# Altium integrated library Renesas Transistor.IntLib: 835 symbols (part 14 of 18)
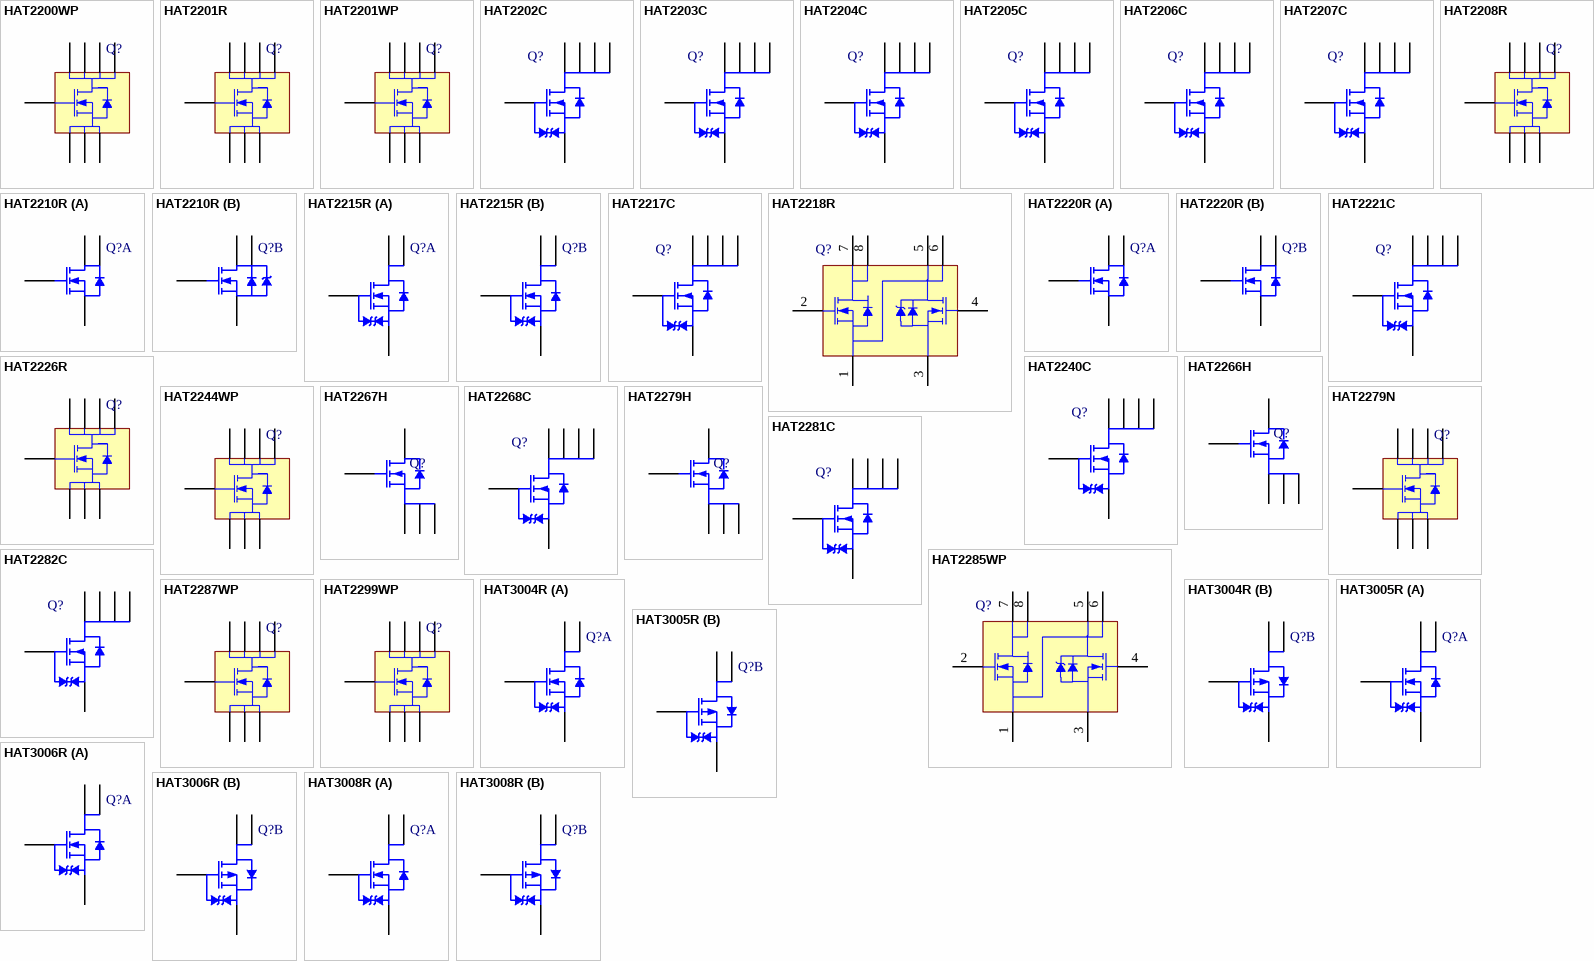
[diagram p35: symbols HAT2200WP to HAT3008R]

## HAT2285WP
designator Q?
Silicon N-Channel Power MOSFET with Schottky Barrier Diode, High Speed Power Switching; Published: 30-Oct-2009; DatasheetVersion: Rev.3.00, Apr-2006; PackageVersion: 2008; PackageReference: PWSN0008DD-A; Publisher: Altium Limited; PackageDescription: 8-Pin Plastic Very-very Thin Small Outline No Lead Package, 5.1 x 6.1 x 0.8mm Body, 1.27mm Pitch (WPAK-D2); ComponentLink1Description: Manufacturer Link; ComponentLink1URL: http://sg.renesas.com/fmwk.jsp?cnt=discrete_category_landing.jsp&fp=/products/discrete/; ComponentLink2Description: Datasheet; ComponentLink2URL: http://documentation.renesas.com/eng/products/transistor/rej03g1371_hat2285wpds.pdf; ComponentLink3Description: Packaging Specification; ComponentLink3URL: http://sg.renesas.com/media/products/common_info/package/pdf/transistor/code/pwsn0008dd_a.pdf
footprint PWSN0008DD-A (SON, 8-Leads, Body 5.1x6.1mm, Pitch 1.27mm, Heatsink)
pins: 1 S1/D2, 2 G1, 3 S2, 4 G2, 5 S1/D2, 6 S1/D2, 7 D1, 8 D1

## HAT2287WP
designator Q?
Silicon N-Channel Power MOSFET, Power Switching; Published: 30-Oct-2009; DatasheetVersion: Rev.1.00, Sep-2006; PackageVersion: Feb-2006; PackageReference: PWSN0008DA-A; Publisher: Altium Limited; PackageDescription: 8-Pin Plastic Very-very Thin Small Outline No Lead Package, 5.1 x 6.1 x 0.8mm Body, 1.27mm Pitch (WPAK); ComponentLink1Description: Manufacturer Link; ComponentLink1URL: http://sg.renesas.com/fmwk.jsp?cnt=discrete_category_landing.jsp&fp=/products/discrete/; ComponentLink2Description: Datasheet; ComponentLink2URL: http://documentation.renesas.com/eng/products/transistor/rej03g1470_hat2287wpds.pdf; ComponentLink3Description: Packaging Specification; ComponentLink3URL: http://sg.renesas.com/media/products/common_info/package/pdf/transistor/code/pwsn0008da_a.pdf
footprint PWSN0008DA-A (SON, 8-Leads, Body 5.1x6.1mm, Pitch 1.27mm, Heatsink)
pins: 1 S, 2 S, 3 S, 4 G, 5 D, 6 D, 7 D, 8 D

## HAT2299WP
designator Q?
Silicon N-Channel MOSFET, Power Switching; Published: 30-Oct-2009; DatasheetVersion: Rev.1.00, Mar-2007; PackageVersion: Feb-2006; PackageReference: PWSN0008DA-A; Publisher: Altium Limited; PackageDescription: 8-Pin Plastic Very-very Thin Small Outline No Lead Package, 5.1 x 6.1 x 0.8mm Body, 1.27mm Pitch (WPAK); ComponentLink1Description: Manufacturer Link; ComponentLink1URL: http://sg.renesas.com/fmwk.jsp?cnt=discrete_category_landing.jsp&fp=/products/discrete/; ComponentLink2Description: Datasheet; ComponentLink2URL: http://documentation.renesas.com/eng/products/transistor/rej03g1528_hat2299wpds.pdf; ComponentLink3Description: Packaging Specification; ComponentLink3URL: http://sg.renesas.com/media/products/common_info/package/pdf/transistor/code/pwsn0008da_a.pdf
footprint PWSN0008DA-A (SON, 8-Leads, Body 5.1x6.1mm, Pitch 1.27mm, Heatsink)
pins: 1 S, 2 S, 3 S, 4 G, 5 D, 6 D, 7 D, 8 D

## HAT3004R
designator Q?
Silicon N-Channel / P-Channel Power MOSFET, High Speed Power Switching; Published: 30-Oct-2009; DatasheetVersion: Rev.11.00, Sep-2005; PackageVersion: Sep-2005; PackageReference: PRSP0008DD-A; Publisher: Altium Limited; PackageDescription: 8-Pin Plastic Small Outline Integrated Circuit 1.27 mm Pitch (SOP-8); Code_IPC: SOIC127P600-8; ComponentLink1Description: Manufacturer Link; ComponentLink1URL: http://sg.renesas.com/fmwk.jsp?cnt=discrete_category_landing.jsp&fp=/products/discrete/; ComponentLink2Description: Datasheet; ComponentLink2URL: http://documentation.renesas.com/eng/products/transistor/rej03g1196_hat3004rds.pdf; ComponentLink3Description: Packaging Specification; ComponentLink3URL: http://sg.renesas.com/media/products/common_info/package/pdf/transistor/code/prsp0008dd_a.pdf
footprint PRSP0008DD-A_N (SOIC, 8-Leads, Body 4.9x3.95mm, Pitch 1.27mm, IPC Medium Density)
footprint PRSP0008DD-A_L (SOIC, 8-Leads, Body 4.9x3.95mm, Pitch 1.27mm, IPC High Density)
footprint PRSP0008DD-A_M (SOIC, 8-Leads, Body 4.9x3.95mm, Pitch 1.27mm, IPC Low Density)
part A pins: 1 S1, 2 G1, 7 D1, 8 D1
part B pins: 3 S2, 4 G2, 5 D2, 6 D2

## HAT3005R
designator Q?
Silicon N/P-Channel Power MOSFET, High Speed Power Switching; Published: 30-Oct-2009; DatasheetVersion: Rev.3.00, Jun-2005; PackageVersion: Sep-2005; PackageReference: PRSP0008DD-A; Publisher: Altium Limited; PackageDescription: 8-Pin Plastic Small Outline Integrated Circuit 1.27 mm Pitch (SOP-8); Code_IPC: SOIC127P600-8; ComponentLink1Description: Manufacturer Link; ComponentLink1URL: http://sg.renesas.com/fmwk.jsp?cnt=discrete_category_landing.jsp&fp=/products/discrete/; ComponentLink2Description: Datasheet; ComponentLink2URL: http://documentation.renesas.com/eng/products/transistor/rej03g0366_hat3005r.pdf; ComponentLink3Description: Packaging Specification; ComponentLink3URL: http://sg.renesas.com/media/products/common_info/package/pdf/transistor/code/prsp0008dd_a.pdf
footprint PRSP0008DD-A_N (SOIC, 8-Leads, Body 4.9x3.95mm, Pitch 1.27mm, IPC Medium Density)
footprint PRSP0008DD-A_L (SOIC, 8-Leads, Body 4.9x3.95mm, Pitch 1.27mm, IPC High Density)
footprint PRSP0008DD-A_M (SOIC, 8-Leads, Body 4.9x3.95mm, Pitch 1.27mm, IPC Low Density)
part A pins: 1 S1, 2 G1, 7 D1, 8 D1
part B pins: 3 S2, 4 G2, 5 D2, 6 D2

## HAT3006R
designator Q?
Silicon N-Channel / P-Channel Power MOSFET, High Speed Power Switching; Published: 30-Oct-2009; DatasheetVersion: Rev.8.00, Sep-2005; PackageVersion: Sep-2005; PackageReference: PRSP0008DD-A; Publisher: Altium Limited; PackageDescription: 8-Pin Plastic Small Outline Integrated Circuit 1.27 mm Pitch (SOP-8); Code_IPC: SOIC127P600-8; ComponentLink1Description: Manufacturer Link; ComponentLink1URL: http://sg.renesas.com/fmwk.jsp?cnt=discrete_category_landing.jsp&fp=/products/discrete/; ComponentLink2Description: Datasheet; ComponentLink2URL: http://documentation.renesas.com/eng/products/transistor/rej03g1197_hat3006rds.pdf; ComponentLink3Description: Packaging Specification; ComponentLink3URL: http://sg.renesas.com/media/products/common_info/package/pdf/transistor/code/prsp0008dd_a.pdf
footprint PRSP0008DD-A_N (SOIC, 8-Leads, Body 4.9x3.95mm, Pitch 1.27mm, IPC Medium Density)
footprint PRSP0008DD-A_L (SOIC, 8-Leads, Body 4.9x3.95mm, Pitch 1.27mm, IPC High Density)
footprint PRSP0008DD-A_M (SOIC, 8-Leads, Body 4.9x3.95mm, Pitch 1.27mm, IPC Low Density)
part A pins: 1 S1, 2 G1, 7 D1, 8 D1
part B pins: 3 S2, 4 G2, 5 D2, 6 D2

## HAT3008R
designator Q?
Silicon N-Channel / P-Channel Power MOSFET, High Speed Power Switching; Published: 30-Oct-2009; DatasheetVersion: Rev.4.00, Sep-2005; PackageVersion: Sep-2005; PackageReference: PRSP0008DD-A; Publisher: Altium Limited; PackageDescription: 8-Pin Plastic Small Outline Integrated Circuit 1.27 mm Pitch (SOP-8); Code_IPC: SOIC127P600-8; ComponentLink1Description: Manufacturer Link; ComponentLink1URL: http://sg.renesas.com/fmwk.jsp?cnt=discrete_category_landing.jsp&fp=/products/discrete/; ComponentLink2Description: Datasheet; ComponentLink2URL: http://documentation.renesas.com/eng/products/transistor/rej03g1198_hat3008rrjds.pdf; ComponentLink3Description: Packaging Specification; ComponentLink3URL: http://sg.renesas.com/media/products/common_info/package/pdf/transistor/code/prsp0008dd_a.pdf
footprint PRSP0008DD-A_N (SOIC, 8-Leads, Body 4.9x3.95mm, Pitch 1.27mm, IPC Medium Density)
footprint PRSP0008DD-A_L (SOIC, 8-Leads, Body 4.9x3.95mm, Pitch 1.27mm, IPC High Density)
footprint PRSP0008DD-A_M (SOIC, 8-Leads, Body 4.9x3.95mm, Pitch 1.27mm, IPC Low Density)
part A pins: 1 S1, 2 G1, 7 D1, 8 D1
part B pins: 3 S2, 4 G2, 5 D2, 6 D2

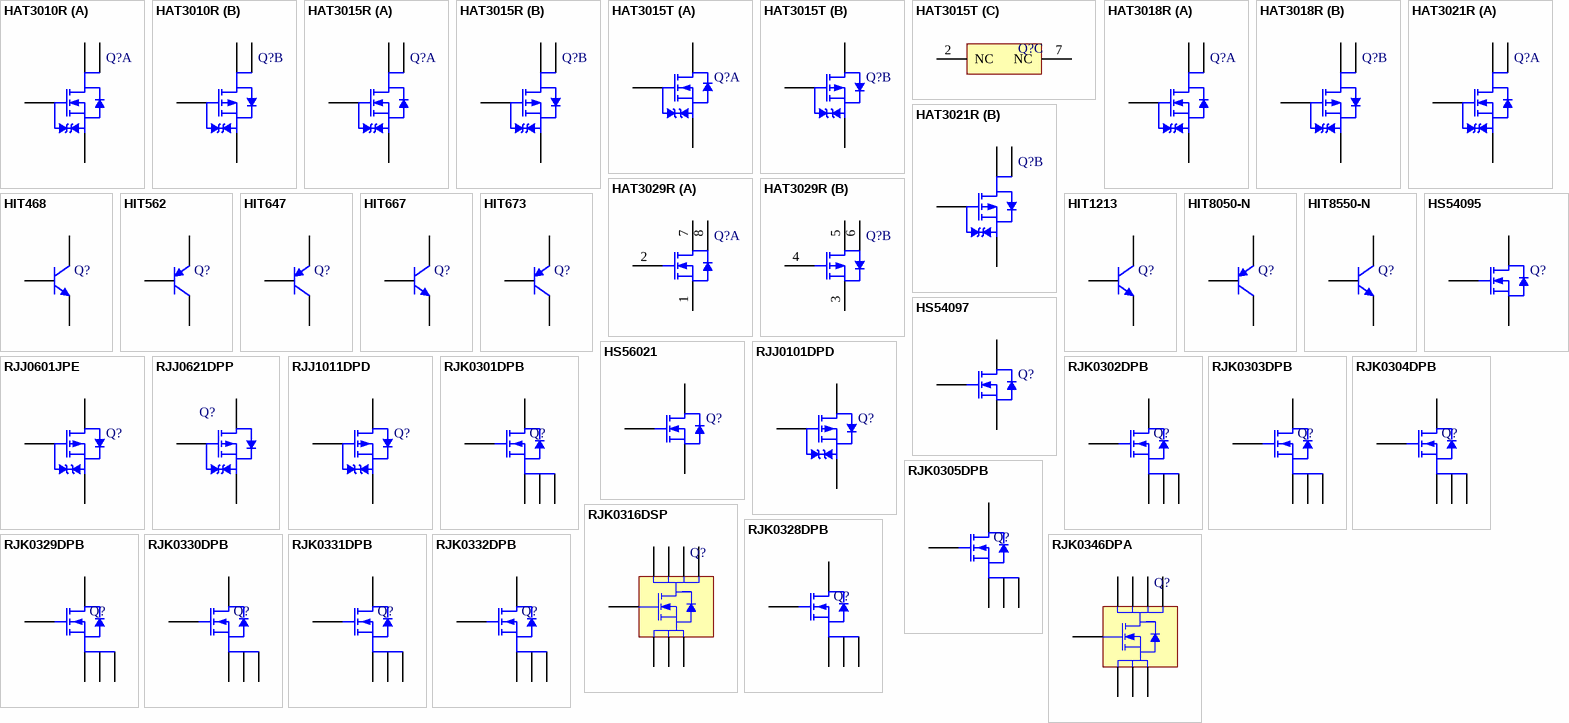
[diagram p17: symbols HAT3010R to RJK0346DPA]

## HAT3010R
designator Q?
Silicon N-Channel / P-Channel Power MOSFET, High Speed Power Switching; Published: 30-Oct-2009; DatasheetVersion: Rev.10.00, Sep-2005; PackageVersion: Sep-2005; PackageReference: PRSP0008DD-A; Publisher: Altium Limited; PackageDescription: 8-Pin Plastic Small Outline Integrated Circuit 1.27 mm Pitch (SOP-8); Code_IPC: SOIC127P600-8; ComponentLink1Description: Manufacturer Link; ComponentLink1URL: http://sg.renesas.com/fmwk.jsp?cnt=discrete_category_landing.jsp&fp=/products/discrete/; ComponentLink2Description: Datasheet; ComponentLink2URL: http://documentation.renesas.com/eng/products/transistor/rej03g1199_hat3010rds.pdf; ComponentLink3Description: Packaging Specification; ComponentLink3URL: http://sg.renesas.com/media/products/common_info/package/pdf/transistor/code/prsp0008dd_a.pdf
footprint PRSP0008DD-A_N (SOIC, 8-Leads, Body 4.9x3.95mm, Pitch 1.27mm, IPC Medium Density)
footprint PRSP0008DD-A_L (SOIC, 8-Leads, Body 4.9x3.95mm, Pitch 1.27mm, IPC High Density)
footprint PRSP0008DD-A_M (SOIC, 8-Leads, Body 4.9x3.95mm, Pitch 1.27mm, IPC Low Density)
part A pins: 1 S1, 2 G1, 7 D1, 8 D1
part B pins: 3 S2, 4 G2, 5 D2, 6 D2

## HAT3015R
designator Q?
Silicon N/P-Channel Power MOSFET, High Speed Power Switching; Published: 30-Oct-2009; DatasheetVersion: Rev.4.00, Apr-2006; PackageVersion: Sep-2005; PackageReference: PRSP0008DD-A; Publisher: Altium Limited; PackageDescription: 8-Pin Plastic Small Outline Integrated Circuit 1.27 mm Pitch (SOP-8); Code_IPC: SOIC127P600-8; ComponentLink1Description: Manufacturer Link; ComponentLink1URL: http://sg.renesas.com/fmwk.jsp?cnt=discrete_category_landing.jsp&fp=/products/discrete/; ComponentLink2Description: Datasheet; ComponentLink2URL: http://documentation.renesas.com/eng/products/transistor/rej03g1368_hat3015rds.pdf; ComponentLink3Description: Packaging Specification; ComponentLink3URL: http://sg.renesas.com/media/products/common_info/package/pdf/transistor/code/prsp0008dd_a.pdf
footprint PRSP0008DD-A_N (SOIC, 8-Leads, Body 4.9x3.95mm, Pitch 1.27mm, IPC Medium Density)
footprint PRSP0008DD-A_L (SOIC, 8-Leads, Body 4.9x3.95mm, Pitch 1.27mm, IPC High Density)
footprint PRSP0008DD-A_M (SOIC, 8-Leads, Body 4.9x3.95mm, Pitch 1.27mm, IPC Low Density)
part A pins: 1 S1, 2 G1, 7 D1, 8 D1
part B pins: 3 S2, 4 G2, 5 D2, 6 D2

## HAT3015T
designator Q?
Silicon N/P-Channel Power MOSFET, High Speed Power Switching; Published: 30-Oct-2009; DatasheetVersion: Rev.2.00, Sep-2004; PackageVersion: Sep-2007; PackageReference: PTSP0008JB-A; Publisher: Altium Limited; PackageDescription: 8-Pin Plastic Thin Small Outline Package 0.65 mm Pitch (TSSOP-8); Code_JEITA: P-TSSOP8-4.4×3-0.65; ComponentLink1Description: Manufacturer Link; ComponentLink1URL: http://sg.renesas.com/fmwk.jsp?cnt=discrete_category_landing.jsp&fp=/products/discrete/; ComponentLink2Description: Datasheet; ComponentLink2URL: http://documentation.renesas.com/eng/products/transistor/rej03g0405_hat3015t.pdf; ComponentLink3Description: Packaging Specification; ComponentLink3URL: http://sg.renesas.com/media/products/common_info/package/pdf/transistor/code/ptsp0008jb_a.pdf
footprint PTSP0008JB-A_N (TSOP, 8-Leads, Body 3x4.4mm, Pitch 0.65mm, IPC Medium Density)
footprint PTSP0008JB-A_L (TSOP, 8-Leads, Body 3x4.4mm, Pitch 0.65mm, IPC High Density)
footprint PTSP0008JB-A_M (TSOP, 8-Leads, Body 3x4.4mm, Pitch 0.65mm, IPC Low Density)
part A pins: 1 D, 3 S, 4 G
part B pins: 5 G, 6 S, 8 D
part C pins: 2 NC, 7 NC

## HAT3018R
designator Q?
Silicon N/P-Channel Power MOSFET, High Speed Power Switching; Published: 30-Oct-2009; DatasheetVersion: Rev.2.00, Nov-2008; PackageVersion: Sep-2005; PackageReference: PRSP0008DD-A; Publisher: Altium Limited; PackageDescription: 8-Pin Plastic Small Outline Integrated Circuit 1.27 mm Pitch (SOP-8); Code_IPC: SOIC127P600-8; ComponentLink1Description: Manufacturer Link; ComponentLink1URL: http://sg.renesas.com/fmwk.jsp?cnt=discrete_category_landing.jsp&fp=/products/discrete/; ComponentLink2Description: Datasheet; ComponentLink2URL: http://documentation.renesas.com/eng/products/transistor/rej03g0127_hat3018r.pdf; ComponentLink3Description: Packaging Specification; ComponentLink3URL: http://sg.renesas.com/media/products/common_info/package/pdf/transistor/code/prsp0008dd_a.pdf
footprint PRSP0008DD-A_N (SOIC, 8-Leads, Body 4.9x3.95mm, Pitch 1.27mm, IPC Medium Density)
footprint PRSP0008DD-A_L (SOIC, 8-Leads, Body 4.9x3.95mm, Pitch 1.27mm, IPC High Density)
footprint PRSP0008DD-A_M (SOIC, 8-Leads, Body 4.9x3.95mm, Pitch 1.27mm, IPC Low Density)
part A pins: 1 S1, 2 G1, 7 D1, 8 D1
part B pins: 3 S2, 4 G2, 5 D2, 6 D2

## HAT3021R
designator Q?
Silicon N/P-Channel Power MOSFET, Power Switching; Published: 30-Oct-2009; DatasheetVersion: Rev.2.00, Oct-2004; PackageVersion: Sep-2005; PackageReference: PRSP0008DD-A; Publisher: Altium Limited; PackageDescription: 8-Pin Plastic Small Outline Integrated Circuit 1.27 mm Pitch (SOP-8); Code_IPC: SOIC127P600-8; ComponentLink1Description: Manufacturer Link; ComponentLink1URL: http://sg.renesas.com/fmwk.jsp?cnt=discrete_category_landing.jsp&fp=/products/discrete/; ComponentLink2Description: Datasheet; ComponentLink2URL: http://documentation.renesas.com/eng/products/transistor/rej03g0415_hat3021r.pdf; ComponentLink3Description: Packaging Specification; ComponentLink3URL: http://sg.renesas.com/media/products/common_info/package/pdf/transistor/code/prsp0008dd_a.pdf
footprint PRSP0008DD-A_N (SOIC, 8-Leads, Body 4.9x3.95mm, Pitch 1.27mm, IPC Medium Density)
footprint PRSP0008DD-A_L (SOIC, 8-Leads, Body 4.9x3.95mm, Pitch 1.27mm, IPC High Density)
footprint PRSP0008DD-A_M (SOIC, 8-Leads, Body 4.9x3.95mm, Pitch 1.27mm, IPC Low Density)
part A pins: 1 S1, 2 G1, 7 D1, 8 D1
part B pins: 3 S2, 4 G2, 5 D2, 6 D2

## HAT3029R
designator Q?
Silicon N/P-Channel Power MOSFET, Power Switching; Published: 30-Oct-2009; DatasheetVersion: Rev.6.00, Oct-2007; PackageVersion: Sep-2005; PackageReference: PRSP0008DD-D; Publisher: Altium Limited; PackageDescription: 8-Pin Plastic Small Outline Integrated Circuit 1.27 mm Pitch (SOP-8); Code_IPC: SOIC127P600-8; ComponentLink1Description: Manufacturer Link; ComponentLink1URL: http://sg.renesas.com/fmwk.jsp?cnt=discrete_category_landing.jsp&fp=/products/discrete/; ComponentLink2Description: Datasheet; ComponentLink2URL: http://documentation.renesas.com/eng/products/transistor/rej03g1597_hat3029rds.pdf; ComponentLink3Description: Packaging Specification; ComponentLink3URL: http://sg.renesas.com/media/products/common_info/package/pdf/transistor/code/prsp0008dd_d.pdf
footprint PRSP0008DD-D_N (SOIC, 8-Leads, Body 4.9x3.95mm, Pitch 1.27mm, IPC Medium Density)
footprint PRSP0008DD-D_L (SOIC, 8-Leads, Body 4.9x3.95mm, Pitch 1.27mm, IPC High Density)
footprint PRSP0008DD-D_M (SOIC, 8-Leads, Body 4.9x3.95mm, Pitch 1.27mm, IPC Low Density)
part A pins: 1 S1, 2 G1, 7 D1, 8 D1
part B pins: 3 S2, 4 G2, 5 D2, 6 D2

## HIT468
designator Q?
Silicon NPN Epitaxial; Published: 30-Oct-2009; DatasheetVersion: Rev.3.00, Jun-2009; PackageVersion: Jan-2005; PackageReference: PRSS0003DC-A; Publisher: Altium Limited; PackageDescription: TO, Flat Index; 3 In-Line, Axial Leads; Body Dia. 4.8mm; Leads 0.55 x 0.5 mm (max); Code_JEITA: SC-51; ComponentLink1Description: Manufacturer Link; ComponentLink1URL: http://sg.renesas.com/fmwk.jsp?cnt=discrete_category_landing.jsp&fp=/products/discrete/; ComponentLink2Description: Datasheet; ComponentLink2URL: http://documentation.renesas.com/eng/products/transistor/rej03g1502_hit468ds.pdf; ComponentLink3Description: Packaging Specification; ComponentLink3URL: http://sg.renesas.com/media/products/common_info/package/pdf/transistor/code/prss0003dc_a.pdf
footprint PRSS0003DC-A (TO, Flat Index; 3 In-Line, Axial Leads; Body Dia. 4.8mm; Leads 0.55 x 0.5 mm (max))
pins: 1 E, 2 C, 3 B

## HIT562
designator Q?
Silicon PNP Epitaxial; Published: 30-Oct-2009; DatasheetVersion: Rev.3.00, Jun-2009; PackageVersion: Jan-2005; PackageReference: PRSS0003DC-A; Publisher: Altium Limited; PackageDescription: TO, Flat Index; 3 In-Line, Axial Leads; Body Dia. 4.8mm; Leads 0.55 x 0.5 mm (max); Code_JEITA: SC-51; ComponentLink1Description: Manufacturer Link; ComponentLink1URL: http://sg.renesas.com/fmwk.jsp?cnt=discrete_category_landing.jsp&fp=/products/discrete/; ComponentLink2Description: Datasheet; ComponentLink2URL: http://documentation.renesas.com/eng/products/transistor/rej03g1503_hit562ds.pdf; ComponentLink3Description: Packaging Specification; ComponentLink3URL: http://sg.renesas.com/media/products/common_info/package/pdf/transistor/code/prss0003dc_a.pdf
footprint PRSS0003DC-A (TO, Flat Index; 3 In-Line, Axial Leads; Body Dia. 4.8mm; Leads 0.55 x 0.5 mm (max))
pins: 1 E, 2 C, 3 B

## HIT647
designator Q?
Silicon PNP Epitaxial; Published: 30-Oct-2009; DatasheetVersion: Rev.3.00, Jun-2009; PackageVersion: Jan-2005; PackageReference: PRSS0003DC-A; Publisher: Altium Limited; PackageDescription: TO, Flat Index; 3 In-Line, Axial Leads; Body Dia. 4.8mm; Leads 0.55 x 0.5 mm (max); Code_JEITA: SC-51; ComponentLink1Description: Manufacturer Link; ComponentLink1URL: http://sg.renesas.com/fmwk.jsp?cnt=discrete_category_landing.jsp&fp=/products/discrete/; ComponentLink2Description: Datasheet; ComponentLink2URL: http://documentation.renesas.com/eng/products/transistor/rej03g1504_hit647ds.pdf; ComponentLink3Description: Packaging Specification; ComponentLink3URL: http://sg.renesas.com/media/products/common_info/package/pdf/transistor/code/prss0003dc_a.pdf
footprint PRSS0003DC-A (TO, Flat Index; 3 In-Line, Axial Leads; Body Dia. 4.8mm; Leads 0.55 x 0.5 mm (max))
pins: 1 E, 2 C, 3 B

## HIT667
designator Q?
Silicon NPN Epitaxial; Published: 30-Oct-2009; DatasheetVersion: Rev.3.00, Jun-2009; PackageVersion: Jan-2005; PackageReference: PRSS0003DC-A; Publisher: Altium Limited; PackageDescription: TO, Flat Index; 3 In-Line, Axial Leads; Body Dia. 4.8mm; Leads 0.55 x 0.5 mm (max); Code_JEITA: SC-51; ComponentLink1Description: Manufacturer Link; ComponentLink1URL: http://sg.renesas.com/fmwk.jsp?cnt=discrete_category_landing.jsp&fp=/products/discrete/; ComponentLink2Description: Datasheet; ComponentLink2URL: http://documentation.renesas.com/eng/products/transistor/rej03g1505_hit667ds.pdf; ComponentLink3Description: Packaging Specification; ComponentLink3URL: http://sg.renesas.com/media/products/common_info/package/pdf/transistor/code/prss0003dc_a.pdf
footprint PRSS0003DC-A (TO, Flat Index; 3 In-Line, Axial Leads; Body Dia. 4.8mm; Leads 0.55 x 0.5 mm (max))
pins: 1 E, 2 C, 3 B

## HIT673
designator Q?
Silicon PNP Epitaxial; Published: 30-Oct-2009; DatasheetVersion: Rev.1.00, Nov-2007; PackageVersion: Jan-2005; PackageReference: PRSS0003DA-A; Publisher: Altium Limited; PackageDescription: TO, Flat Index; 3 In-Line, Axial Leads; Body Dia. 4.8mm; Leads 0.55 x 0.5 mm (max); Code_JEITA: SC-43A; ComponentLink1Description: Manufacturer Link; ComponentLink1URL: http://sg.renesas.com/fmwk.jsp?cnt=discrete_category_landing.jsp&fp=/products/discrete/; ComponentLink2Description: Datasheet; ComponentLink2URL: http://documentation.renesas.com/eng/products/transistor/rej03g1608_hit673ds.pdf; ComponentLink3Description: Packaging Specification; ComponentLink3URL: http://sg.renesas.com/media/products/common_info/package/pdf/transistor/code/prss0003da_a.pdf
footprint PRSS0003DA-A (TO, Flat Index; 3 In-Line, Axial Leads; Body Dia. 4.8mm; Leads 0.55 x 0.5 mm (max))
pins: 1 E, 2 C, 3 B

## HIT1213
designator Q?
Silicon NPN Epitaxial; Published: 30-Oct-2009; DatasheetVersion: Rev.1.00, Nov-2007; PackageVersion: Jan-2005; PackageReference: PRSS0003DA-A; Publisher: Altium Limited; PackageDescription: TO, Flat Index; 3 In-Line, Axial Leads; Body Dia. 4.8mm; Leads 0.55 x 0.5 mm (max); Code_JEITA: SC-43A; ComponentLink1Description: Manufacturer Link; ComponentLink1URL: http://sg.renesas.com/fmwk.jsp?cnt=discrete_category_landing.jsp&fp=/products/discrete/; ComponentLink2Description: Datasheet; ComponentLink2URL: http://documentation.renesas.com/eng/products/transistor/rej03g1609_hit1213ds.pdf; ComponentLink3Description: Packaging Specification; ComponentLink3URL: http://sg.renesas.com/media/products/common_info/package/pdf/transistor/code/prss0003da_a.pdf
footprint PRSS0003DA-A (TO, Flat Index; 3 In-Line, Axial Leads; Body Dia. 4.8mm; Leads 0.55 x 0.5 mm (max))
pins: 1 E, 2 C, 3 B

## HIT8050-N
designator Q?
Silicon PNP Epitaxial; Published: 30-Oct-2009; DatasheetVersion: Rev.1.00, Nov-2007; PackageVersion: Jan-2005; PackageReference: PRSS0003DA-A; Publisher: Altium Limited; PackageDescription: TO, Flat Index; 3 In-Line, Axial Leads; Body Dia. 4.8mm; Leads 0.55 x 0.5 mm (max); Code_JEITA: SC-43A; ComponentLink1Description: Manufacturer Link; ComponentLink1URL: http://sg.renesas.com/fmwk.jsp?cnt=discrete_category_landing.jsp&fp=/products/discrete/; ComponentLink2Description: Datasheet; ComponentLink2URL: http://documentation.renesas.com/eng/products/transistor/rej03g1611_hit8050nds.pdf; ComponentLink3Description: Packaging Specification; ComponentLink3URL: http://sg.renesas.com/media/products/common_info/package/pdf/transistor/code/prss0003da_a.pdf
footprint PRSS0003DA-A (TO, Flat Index; 3 In-Line, Axial Leads; Body Dia. 4.8mm; Leads 0.55 x 0.5 mm (max))
pins: 1 E, 2 C, 3 B

## HIT8550-N
designator Q?
Silicon NPN Epitaxial; Published: 30-Oct-2009; DatasheetVersion: Rev.1.00, Nov-2007; PackageVersion: Jan-2005; PackageReference: PRSS0003DA-A; Publisher: Altium Limited; PackageDescription: TO, Flat Index; 3 In-Line, Axial Leads; Body Dia. 4.8mm; Leads 0.55 x 0.5 mm (max); Code_JEITA: SC-43A; ComponentLink1Description: Manufacturer Link; ComponentLink1URL: http://sg.renesas.com/fmwk.jsp?cnt=discrete_category_landing.jsp&fp=/products/discrete/; ComponentLink2Description: Datasheet; ComponentLink2URL: http://documentation.renesas.com/eng/products/transistor/rej03g1610_hit8550nds.pdf; ComponentLink3Description: Packaging Specification; ComponentLink3URL: http://sg.renesas.com/media/products/common_info/package/pdf/transistor/code/prss0003da_a.pdf
footprint PRSS0003DA-A (TO, Flat Index; 3 In-Line, Axial Leads; Body Dia. 4.8mm; Leads 0.55 x 0.5 mm (max))
pins: 1 E, 2 C, 3 B

## HS54095
designator Q?
Silicon N-Channel MOSFET, High Speed Power Switching; Published: 30-Oct-2009; DatasheetVersion: Rev.1.00, Apr-2008; PackageVersion: Jan-2005; PackageReference: PRSS0003DA-A; Publisher: Altium Limited; PackageDescription: TO, Flat Index; 3 In-Line, Axial Leads; Body Dia. 4.8mm; Leads 0.55 x 0.5 mm (max); Code_JEITA: SC-43A; ComponentLink1Description: Manufacturer Link; ComponentLink1URL: http://sg.renesas.com/fmwk.jsp?cnt=discrete_category_landing.jsp&fp=/products/discrete/; ComponentLink2Description: Datasheet; ComponentLink2URL: http://documentation.renesas.com/eng/products/transistor/rej03g1668_hs54095ds.pdf; ComponentLink3Description: Packaging Specification; ComponentLink3URL: http://sg.renesas.com/media/products/common_info/package/pdf/transistor/code/prss0003da_a.pdf
footprint PRSS0003DA-A (TO, Flat Index; 3 In-Line, Axial Leads; Body Dia. 4.8mm; Leads 0.55 x 0.5 mm (max))
pins: 1 G, 2 D, 3 S

## HS54097
designator Q?
Silicon N-Channel MOSFET, High Speed Power Switching; Published: 30-Oct-2009; DatasheetVersion: Rev.1.00, Apr-2008; PackageVersion: Jan-2005; PackageReference: PRSS0003DA-A; Publisher: Altium Limited; PackageDescription: TO, Flat Index; 3 In-Line, Axial Leads; Body Dia. 4.8mm; Leads 0.55 x 0.5 mm (max); Code_JEITA: SC-43A; ComponentLink1Description: Manufacturer Link; ComponentLink1URL: http://sg.renesas.com/fmwk.jsp?cnt=discrete_category_landing.jsp&fp=/products/discrete/; ComponentLink2Description: Datasheet; ComponentLink2URL: http://documentation.renesas.com/eng/products/transistor/rej03g1669_hs54097ds.pdf; ComponentLink3Description: Packaging Specification; ComponentLink3URL: http://sg.renesas.com/media/products/common_info/package/pdf/transistor/code/prss0003da_a.pdf
footprint PRSS0003DA-A (TO, Flat Index; 3 In-Line, Axial Leads; Body Dia. 4.8mm; Leads 0.55 x 0.5 mm (max))
pins: 1 G, 2 D, 3 S

## HS56021
designator Q?
Silicon N-Channel MOSFET, High Speed Power Switching; Published: 30-Oct-2009; DatasheetVersion: Rev.2.00, Apr-2008; PackageVersion: Jan-2005; PackageReference: PRSS0003DC-A; Publisher: Altium Limited; PackageDescription: TO, Flat Index; 3 In-Line, Axial Leads; Body Dia. 4.8mm; Leads 0.55 x 0.5 mm (max); Code_JEITA: SC-51; ComponentLink1Description: Manufacturer Link; ComponentLink1URL: http://sg.renesas.com/fmwk.jsp?cnt=discrete_category_landing.jsp&fp=/products/discrete/; ComponentLink2Description: Datasheet; ComponentLink2URL: http://documentation.renesas.com/eng/products/transistor/rej03g1670_hs56021ds.pdf; ComponentLink3Description: Packaging Specification; ComponentLink3URL: http://sg.renesas.com/media/products/common_info/package/pdf/transistor/code/prss0003dc_a.pdf
footprint PRSS0003DC-A (TO, Flat Index; 3 In-Line, Axial Leads; Body Dia. 4.8mm; Leads 0.55 x 0.5 mm (max))
pins: 1 G, 2 D, 3 S

## RJJ0101DPD
designator Q?
Silicon P-Channel MOSFET, High Speed Power Switching; Published: 30-Oct-2009; DatasheetVersion: Rev.3.00, Dec-2008; PackageVersion: Dec-2008; PackageReference: PRSS0004ZG-A; Publisher: Altium Limited; PackageDescription: 3-Pin Plastic Transistor Outline Package, 6.1 x 6.6 mm Body (MP-3A); Code_JEITA: SC-63; ComponentLink1Description: Manufacturer Link; ComponentLink1URL: http://sg.renesas.com/fmwk.jsp?cnt=discrete_category_landing.jsp&fp=/products/discrete/; ComponentLink2Description: Datasheet; ComponentLink2URL: http://documentation.renesas.com/eng/products/transistor/rej03g1580_rjj0101dpdds.pdf; ComponentLink3Description: Packaging Specification; ComponentLink3URL: http://sg.renesas.com/media/products/common_info/package/pdf/transistor/code/prss0004zg_a.pdf
footprint PRSS0004ZG-A_N (D-PAK, 4-Leads, Body 6.1x6.6mm, Pitch 2.28mm, Lead Span 9.9mm, IPC Medium Density)
footprint PRSS0004ZG-A_L (D-PAK, 4-Leads, Body 6.1x6.6mm, Pitch 2.28mm, Lead Span 9.9mm, IPC High Density)
footprint PRSS0004ZG-A_M (D-PAK, 4-Leads, Body 6.1x6.6mm, Pitch 2.28mm, Lead Span 9.9mm, IPC Low Density)
pins: 1 G, 3 S, 4 D

## RJJ0601JPE
designator Q?
Silicon P-Channel MOSFET, High Speed Power Switching; Published: 30-Oct-2009; DatasheetVersion: Rev.1.00, Nov-2007; PackageVersion: Sep-2005; PackageReference: PRSS0004AE-B; Publisher: Altium Limited; PackageDescription: 3-Pin Plastic Transistor Outline Package 8.6 x 10.2 mm Body (LDPAK(S)-(1)); Code_JEITA: SC-83; ComponentLink1Description: Manufacturer Link; ComponentLink1URL: http://sg.renesas.com/fmwk.jsp?cnt=discrete_category_landing.jsp&fp=/products/discrete/; ComponentLink2Description: Datasheet; ComponentLink2URL: http://documentation.renesas.com/eng/products/transistor/rej03g1603_rjj0601jpeds.pdf; ComponentLink3Description: Packaging Specification; ComponentLink3URL: http://sg.renesas.com/media/products/common_info/package/pdf/transistor/code/prss0004ae_b.pdf
footprint PRSS0004AE-B_N (TO, 4-Leads, Body 8.6x10.2mm, Pitch 2.54mm, Lead Span 12.8mm, IPC Medium Density)
footprint PRSS0004AE-B_L (TO, 4-Leads, Body 8.6x10.2mm, Pitch 2.54mm, Lead Span 12.8mm, IPC High Density)
footprint PRSS0004AE-B_M (TO, 4-Leads, Body 8.6x10.2mm, Pitch 2.54mm, Lead Span 12.8mm, IPC Low Density)
pins: 1 G, 3 S, 4 D

## RJJ0621DPP
designator Q?
Silicon P-Channel MOSFET, High Speed Switching; Published: 30-Oct-2009; DatasheetVersion: Rev.2.00, Jun-2008; PackageVersion: Sep-2005; PackageReference: PRSS0003AB-A; Publisher: Altium Limited; PackageDescription: TO, Thru-Hole, Vertical, Heatsink Mounted; 3 In-Line Leads; Pitch 2.54 mm (TO-220FN); ComponentLink1Description: Manufacturer Link; ComponentLink1URL: http://sg.renesas.com/fmwk.jsp?cnt=discrete_category_landing.jsp&fp=/products/discrete/; ComponentLink2Description: Datasheet; ComponentLink2URL: http://documentation.renesas.com/eng/products/transistor/rej03g1624_rjj0621dppds.pdf; ComponentLink3Description: Packaging Specification; ComponentLink3URL: http://sg.renesas.com/media/products/common_info/package/pdf/transistor/code/prss0003ab_a.pdf
footprint PRSS0003AB-A (TO, Thru-Hole, Vertical, Heatsink Mounted; 3 In-Line Leads; Pitch 2.54 mm)
pins: 1 G, 2 D, 3 S

## RJJ1011DPD
designator Q?
P-Channel Power MOSFET, High-Speed Switching Use; Published: 30-Oct-2009; DatasheetVersion: Rev.3.00, Dec-2008; PackageVersion: Dec-2008; PackageReference: PRSS0004ZG-A; Publisher: Altium Limited; PackageDescription: 3-Pin Plastic Transistor Outline Package, 6.1 x 6.6 mm Body (MP-3A); Code_JEITA: SC-63; ComponentLink1Description: Manufacturer Link; ComponentLink1URL: http://sg.renesas.com/fmwk.jsp?cnt=discrete_category_landing.jsp&fp=/products/discrete/; ComponentLink2Description: Datasheet; ComponentLink2URL: http://documentation.renesas.com/eng/products/transistor/rej03g1623_rjj1011dpdds.pdf; ComponentLink3Description: Packaging Specification; ComponentLink3URL: http://sg.renesas.com/media/products/common_info/package/pdf/transistor/code/prss0004zg_a.pdf
footprint PRSS0004ZG-A_N (D-PAK, 4-Leads, Body 6.1x6.6mm, Pitch 2.28mm, Lead Span 9.9mm, IPC Medium Density)
footprint PRSS0004ZG-A_L (D-PAK, 4-Leads, Body 6.1x6.6mm, Pitch 2.28mm, Lead Span 9.9mm, IPC High Density)
footprint PRSS0004ZG-A_M (D-PAK, 4-Leads, Body 6.1x6.6mm, Pitch 2.28mm, Lead Span 9.9mm, IPC Low Density)
pins: 1 G, 3 S, 4 D

## RJK0301DPB
designator Q?
Silicon N-Channel Power MOSFET, Power Switching; Published: 30-Oct-2009; DatasheetVersion: Rev.9.00, Apr-2006; PackageVersion: Sep-2005; PackageReference: PTZZ0005DA-A; Publisher: Altium Limited; PackageDescription: 5-Pin Plastic Transistor Outline Package 4 x 4.9 mm Body (LFPAK); Code_JEITA: SC-100; ComponentLink1Description: Manufacturer Link; ComponentLink1URL: http://sg.renesas.com/fmwk.jsp?cnt=discrete_category_landing.jsp&fp=/products/discrete/; ComponentLink2Description: Datasheet; ComponentLink2URL: http://documentation.renesas.com/eng/products/transistor/rej03g1338_rjk0301dpbds.pdf; ComponentLink3Description: Packaging Specification; ComponentLink3URL: http://sg.renesas.com/media/products/common_info/package/pdf/transistor/code/ptzz0005da_a.pdf
footprint PTZZ0005DA-A_N (TO, 5-Leads, Body 4x4.9mm, Pitch 1.27mm, Lead Span 6mm, IPC Medium Density)
footprint PTZZ0005DA-A_L (TO, 5-Leads, Body 4x4.9mm, Pitch 1.27mm, Lead Span 6mm, IPC High Density)
footprint PTZZ0005DA-A_M (TO, 5-Leads, Body 4x4.9mm, Pitch 1.27mm, Lead Span 6mm, IPC Low Density)
pins: 1 S, 2 S, 3 S, 4 G, 5 D

## RJK0302DPB
designator Q?
Silicon N-Channel Power MOSFET, Power Switching; Published: 30-Oct-2009; DatasheetVersion: Rev.6.00, Apr-2006; PackageVersion: Sep-2005; PackageReference: PTZZ0005DA-A; Publisher: Altium Limited; PackageDescription: 5-Pin Plastic Transistor Outline Package 4 x 4.9 mm Body (LFPAK); Code_JEITA: SC-100; ComponentLink1Description: Manufacturer Link; ComponentLink1URL: http://sg.renesas.com/fmwk.jsp?cnt=discrete_category_landing.jsp&fp=/products/discrete/; ComponentLink2Description: Datasheet; ComponentLink2URL: http://documentation.renesas.com/eng/products/transistor/rej03g1340_rjk0302dpbds.pdf; ComponentLink3Description: Packaging Specification; ComponentLink3URL: http://sg.renesas.com/media/products/common_info/package/pdf/transistor/code/ptzz0005da_a.pdf
footprint PTZZ0005DA-A_N (TO, 5-Leads, Body 4x4.9mm, Pitch 1.27mm, Lead Span 6mm, IPC Medium Density)
footprint PTZZ0005DA-A_L (TO, 5-Leads, Body 4x4.9mm, Pitch 1.27mm, Lead Span 6mm, IPC High Density)
footprint PTZZ0005DA-A_M (TO, 5-Leads, Body 4x4.9mm, Pitch 1.27mm, Lead Span 6mm, IPC Low Density)
pins: 1 S, 2 S, 3 S, 4 G, 5 D

## RJK0303DPB
designator Q?
Silicon N-Channel Power MOSFET, Power Switching; Published: 30-Oct-2009; DatasheetVersion: Rev.6.00, Apr-2006; PackageVersion: Sep-2005; PackageReference: PTZZ0005DA-A; Publisher: Altium Limited; PackageDescription: 5-Pin Plastic Transistor Outline Package 4 x 4.9 mm Body (LFPAK); Code_JEITA: SC-100; ComponentLink1Description: Manufacturer Link; ComponentLink1URL: http://sg.renesas.com/fmwk.jsp?cnt=discrete_category_landing.jsp&fp=/products/discrete/; ComponentLink2Description: Datasheet; ComponentLink2URL: http://documentation.renesas.com/eng/products/transistor/rej03g1341_rjk0303dpbds.pdf; ComponentLink3Description: Packaging Specification; ComponentLink3URL: http://sg.renesas.com/media/products/common_info/package/pdf/transistor/code/ptzz0005da_a.pdf
footprint PTZZ0005DA-A_N (TO, 5-Leads, Body 4x4.9mm, Pitch 1.27mm, Lead Span 6mm, IPC Medium Density)
footprint PTZZ0005DA-A_L (TO, 5-Leads, Body 4x4.9mm, Pitch 1.27mm, Lead Span 6mm, IPC High Density)
footprint PTZZ0005DA-A_M (TO, 5-Leads, Body 4x4.9mm, Pitch 1.27mm, Lead Span 6mm, IPC Low Density)
pins: 1 S, 2 S, 3 S, 4 G, 5 D

## RJK0304DPB
designator Q?
Silicon N-Channel Power MOSFET, Power Switching; Published: 30-Oct-2009; DatasheetVersion: Rev.6.00, Apr-2006; PackageVersion: Sep-2005; PackageReference: PTZZ0005DA-A; Publisher: Altium Limited; PackageDescription: 5-Pin Plastic Transistor Outline Package 4 x 4.9 mm Body (LFPAK); Code_JEITA: SC-100; ComponentLink1Description: Manufacturer Link; ComponentLink1URL: http://sg.renesas.com/fmwk.jsp?cnt=discrete_category_landing.jsp&fp=/products/discrete/; ComponentLink2Description: Datasheet; ComponentLink2URL: http://documentation.renesas.com/eng/products/transistor/rej03g1352_rjk0304dpbds.pdf; ComponentLink3Description: Packaging Specification; ComponentLink3URL: http://sg.renesas.com/media/products/common_info/package/pdf/transistor/code/ptzz0005da_a.pdf
footprint PTZZ0005DA-A_N (TO, 5-Leads, Body 4x4.9mm, Pitch 1.27mm, Lead Span 6mm, IPC Medium Density)
footprint PTZZ0005DA-A_L (TO, 5-Leads, Body 4x4.9mm, Pitch 1.27mm, Lead Span 6mm, IPC High Density)
footprint PTZZ0005DA-A_M (TO, 5-Leads, Body 4x4.9mm, Pitch 1.27mm, Lead Span 6mm, IPC Low Density)
pins: 1 S, 2 S, 3 S, 4 G, 5 D

## RJK0305DPB
designator Q?
Silicon N-Channel Power MOSFET, Power Switching; Published: 30-Oct-2009; DatasheetVersion: Rev.9.00, Apr-2006; PackageVersion: Sep-2005; PackageReference: PTZZ0005DA-A; Publisher: Altium Limited; PackageDescription: 5-Pin Plastic Transistor Outline Package 4 x 4.9 mm Body (LFPAK); Code_JEITA: SC-100; ComponentLink1Description: Manufacturer Link; ComponentLink1URL: http://sg.renesas.com/fmwk.jsp?cnt=discrete_category_landing.jsp&fp=/products/discrete/; ComponentLink2Description: Datasheet; ComponentLink2URL: http://documentation.renesas.com/eng/products/transistor/rej03g1353_rjk0305dpbds.pdf; ComponentLink3Description: Packaging Specification; ComponentLink3URL: http://sg.renesas.com/media/products/common_info/package/pdf/transistor/code/ptzz0005da_a.pdf
footprint PTZZ0005DA-A_N (TO, 5-Leads, Body 4x4.9mm, Pitch 1.27mm, Lead Span 6mm, IPC Medium Density)
footprint PTZZ0005DA-A_L (TO, 5-Leads, Body 4x4.9mm, Pitch 1.27mm, Lead Span 6mm, IPC High Density)
footprint PTZZ0005DA-A_M (TO, 5-Leads, Body 4x4.9mm, Pitch 1.27mm, Lead Span 6mm, IPC Low Density)
pins: 1 S, 2 S, 3 S, 4 G, 5 D

## RJK0316DSP
designator Q?
Silicon N-Channel Power MOSFET, Power Switching; Published: 30-Oct-2009; DatasheetVersion: Rev.3.00, Oct-2007; PackageVersion: Sep-2005; PackageReference: PRSP0008DD-D; Publisher: Altium Limited; PackageDescription: 8-Pin Plastic Small Outline Integrated Circuit 1.27 mm Pitch (SOP-8); Code_IPC: SOIC127P600-8; ComponentLink1Description: Manufacturer Link; ComponentLink1URL: http://sg.renesas.com/fmwk.jsp?cnt=discrete_category_landing.jsp&fp=/products/discrete/; ComponentLink2Description: Datasheet; ComponentLink2URL: http://documentation.renesas.com/eng/products/transistor/rej03g1598_rjk0316dspds.pdf; ComponentLink3Description: Packaging Specification; ComponentLink3URL: http://sg.renesas.com/media/products/common_info/package/pdf/transistor/code/prsp0008dd_d.pdf
footprint PRSP0008DD-D_N (SOIC, 8-Leads, Body 4.9x3.95mm, Pitch 1.27mm, IPC Medium Density)
footprint PRSP0008DD-D_L (SOIC, 8-Leads, Body 4.9x3.95mm, Pitch 1.27mm, IPC High Density)
footprint PRSP0008DD-D_M (SOIC, 8-Leads, Body 4.9x3.95mm, Pitch 1.27mm, IPC Low Density)
pins: 1 S, 2 S, 3 S, 4 G, 5 D, 6 D, 7 D, 8 D

## RJK0328DPB
designator Q?
Silicon N-Channel Power MOSFET, Power Switching; Published: 30-Oct-2009; DatasheetVersion: Rev.4.00, Apr-2008; PackageVersion: Sep-2005; PackageReference: PTZZ0005DA-A; Publisher: Altium Limited; PackageDescription: 5-Pin Plastic Transistor Outline Package 4 x 4.9 mm Body (LFPAK); Code_JEITA: SC-100; ComponentLink1Description: Manufacturer Link; ComponentLink1URL: http://sg.renesas.com/fmwk.jsp?cnt=discrete_category_landing.jsp&fp=/products/discrete/; ComponentLink2Description: Datasheet; ComponentLink2URL: http://documentation.renesas.com/eng/products/transistor/rej03g1637_rjk0328dpbds.pdf; ComponentLink3Description: Packaging Specification; ComponentLink3URL: http://sg.renesas.com/media/products/common_info/package/pdf/transistor/code/ptzz0005da_a.pdf
footprint PTZZ0005DA-A_N (TO, 5-Leads, Body 4x4.9mm, Pitch 1.27mm, Lead Span 6mm, IPC Medium Density)
footprint PTZZ0005DA-A_L (TO, 5-Leads, Body 4x4.9mm, Pitch 1.27mm, Lead Span 6mm, IPC High Density)
footprint PTZZ0005DA-A_M (TO, 5-Leads, Body 4x4.9mm, Pitch 1.27mm, Lead Span 6mm, IPC Low Density)
pins: 1 S, 2 S, 3 S, 4 G, 5 D

## RJK0329DPB
designator Q?
Silicon N-Channel Power MOSFET, Power Switching; Published: 30-Oct-2009; DatasheetVersion: Rev.4.00, Apr-2008; PackageVersion: Sep-2005; PackageReference: PTZZ0005DA-A; Publisher: Altium Limited; PackageDescription: 5-Pin Plastic Transistor Outline Package 4 x 4.9 mm Body (LFPAK); Code_JEITA: SC-100; ComponentLink1Description: Manufacturer Link; ComponentLink1URL: http://sg.renesas.com/fmwk.jsp?cnt=discrete_category_landing.jsp&fp=/products/discrete/; ComponentLink2Description: Datasheet; ComponentLink2URL: http://documentation.renesas.com/eng/products/transistor/rej03g1638_rjk0329dpbds.pdf; ComponentLink3Description: Packaging Specification; ComponentLink3URL: http://sg.renesas.com/media/products/common_info/package/pdf/transistor/code/ptzz0005da_a.pdf
footprint PTZZ0005DA-A_N (TO, 5-Leads, Body 4x4.9mm, Pitch 1.27mm, Lead Span 6mm, IPC Medium Density)
footprint PTZZ0005DA-A_L (TO, 5-Leads, Body 4x4.9mm, Pitch 1.27mm, Lead Span 6mm, IPC High Density)
footprint PTZZ0005DA-A_M (TO, 5-Leads, Body 4x4.9mm, Pitch 1.27mm, Lead Span 6mm, IPC Low Density)
pins: 1 S, 2 S, 3 S, 4 G, 5 D

## RJK0330DPB
designator Q?
Silicon N-Channel Power MOSFET, Power Switching; Published: 30-Oct-2009; DatasheetVersion: Rev.4.00, Apr-2008; PackageVersion: Sep-2005; PackageReference: PTZZ0005DA-A; Publisher: Altium Limited; PackageDescription: 5-Pin Plastic Transistor Outline Package 4 x 4.9 mm Body (LFPAK); Code_JEITA: SC-100; ComponentLink1Description: Manufacturer Link; ComponentLink1URL: http://sg.renesas.com/fmwk.jsp?cnt=discrete_category_landing.jsp&fp=/products/discrete/; ComponentLink2Description: Datasheet; ComponentLink2URL: http://documentation.renesas.com/eng/products/transistor/rej03g1639_rjk0330dpbds.pdf; ComponentLink3Description: Packaging Specification; ComponentLink3URL: http://sg.renesas.com/media/products/common_info/package/pdf/transistor/code/ptzz0005da_a.pdf
footprint PTZZ0005DA-A_N (TO, 5-Leads, Body 4x4.9mm, Pitch 1.27mm, Lead Span 6mm, IPC Medium Density)
footprint PTZZ0005DA-A_L (TO, 5-Leads, Body 4x4.9mm, Pitch 1.27mm, Lead Span 6mm, IPC High Density)
footprint PTZZ0005DA-A_M (TO, 5-Leads, Body 4x4.9mm, Pitch 1.27mm, Lead Span 6mm, IPC Low Density)
pins: 1 S, 2 S, 3 S, 4 G, 5 D

## RJK0331DPB
designator Q?
Silicon N-Channel Power MOSFET, Power Switching; Published: 30-Oct-2009; DatasheetVersion: Rev.4.00, Apr-2008; PackageVersion: Sep-2005; PackageReference: PTZZ0005DA-A; Publisher: Altium Limited; PackageDescription: 5-Pin Plastic Transistor Outline Package 4 x 4.9 mm Body (LFPAK); Code_JEITA: SC-100; ComponentLink1Description: Manufacturer Link; ComponentLink1URL: http://sg.renesas.com/fmwk.jsp?cnt=discrete_category_landing.jsp&fp=/products/discrete/; ComponentLink2Description: Datasheet; ComponentLink2URL: http://documentation.renesas.com/eng/products/transistor/rej03g1640_rjk0331dpbds.pdf; ComponentLink3Description: Packaging Specification; ComponentLink3URL: http://sg.renesas.com/media/products/common_info/package/pdf/transistor/code/ptzz0005da_a.pdf
footprint PTZZ0005DA-A_N (TO, 5-Leads, Body 4x4.9mm, Pitch 1.27mm, Lead Span 6mm, IPC Medium Density)
footprint PTZZ0005DA-A_L (TO, 5-Leads, Body 4x4.9mm, Pitch 1.27mm, Lead Span 6mm, IPC High Density)
footprint PTZZ0005DA-A_M (TO, 5-Leads, Body 4x4.9mm, Pitch 1.27mm, Lead Span 6mm, IPC Low Density)
pins: 1 S, 2 S, 3 S, 4 G, 5 D

## RJK0332DPB
designator Q?
Silicon N-Channel Power MOSFET, Power Switching; Published: 30-Oct-2009; DatasheetVersion: Rev.4.00, Apr-2008; PackageVersion: Sep-2005; PackageReference: PTZZ0005DA-A; Publisher: Altium Limited; PackageDescription: 5-Pin Plastic Transistor Outline Package 4 x 4.9 mm Body (LFPAK); Code_JEITA: SC-100; ComponentLink1Description: Manufacturer Link; ComponentLink1URL: http://sg.renesas.com/fmwk.jsp?cnt=discrete_category_landing.jsp&fp=/products/discrete/; ComponentLink2Description: Datasheet; ComponentLink2URL: http://documentation.renesas.com/eng/products/transistor/rej03g1641_rjk0332dpbds.pdf; ComponentLink3Description: Packaging Specification; ComponentLink3URL: http://sg.renesas.com/media/products/common_info/package/pdf/transistor/code/ptzz0005da_a.pdf
footprint PTZZ0005DA-A_N (TO, 5-Leads, Body 4x4.9mm, Pitch 1.27mm, Lead Span 6mm, IPC Medium Density)
footprint PTZZ0005DA-A_L (TO, 5-Leads, Body 4x4.9mm, Pitch 1.27mm, Lead Span 6mm, IPC High Density)
footprint PTZZ0005DA-A_M (TO, 5-Leads, Body 4x4.9mm, Pitch 1.27mm, Lead Span 6mm, IPC Low Density)
pins: 1 S, 2 S, 3 S, 4 G, 5 D

## RJK0346DPA
designator Q?
Silicon N-Channel Power MOSFET, Power Switching; Published: 30-Oct-2009; DatasheetVersion: Rev.2.00, Apr-2008; PackageVersion: Feb-2006; PackageReference: PWSN0008DA-A; Publisher: Altium Limited; PackageDescription: 8-Pin Plastic Very-very Thin Small Outline No Lead Package, 5.1 x 6.1 x 0.8mm Body, 1.27mm Pitch (WPAK); ComponentLink1Description: Manufacturer Link; ComponentLink1URL: http://sg.renesas.com/fmwk.jsp?cnt=discrete_category_landing.jsp&fp=/products/discrete/; ComponentLink2Description: Datasheet; ComponentLink2URL: http://documentation.renesas.com/eng/products/transistor/rej03g1642_rjk0346dpads.pdf; ComponentLink3Description: Packaging Specification; ComponentLink3URL: http://sg.renesas.com/media/products/common_info/package/pdf/transistor/code/pwsn0008da_a.pdf
footprint PWSN0008DA-A (SON, 8-Leads, Body 5.1x6.1mm, Pitch 1.27mm, Heatsink)
pins: 1 S, 2 S, 3 S, 4 G, 5 D, 6 D, 7 D, 8 D

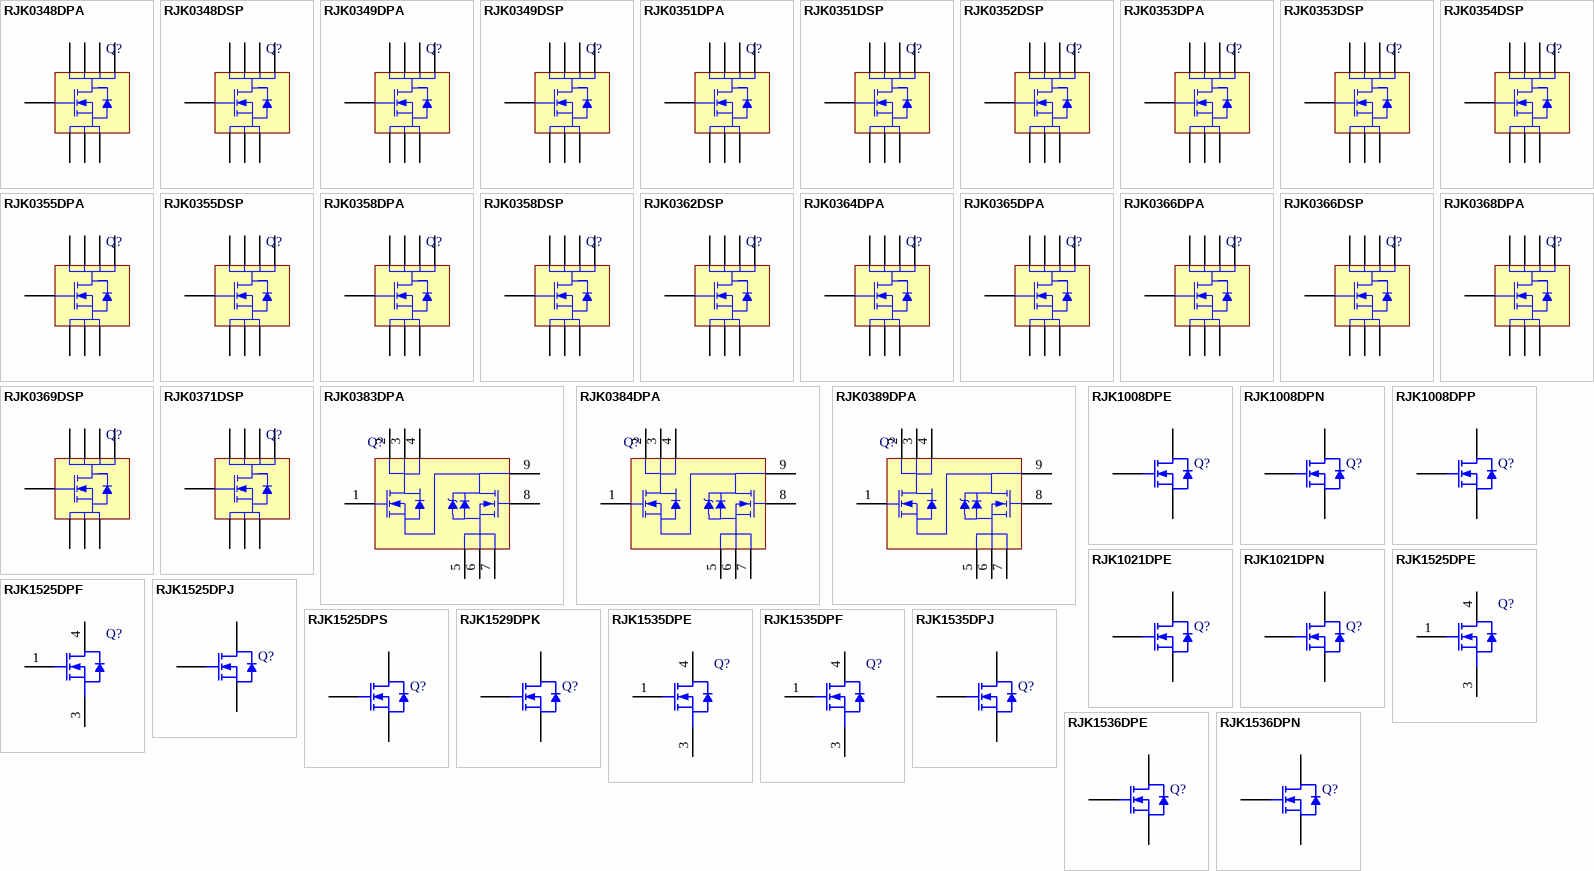
[diagram p18: symbols RJK0348DPA to RJK1536DPN]

## RJK0348DPA
designator Q?
Silicon N-Channel Power MOSFET, Power Switching; Published: 30-Oct-2009; DatasheetVersion: Rev.3.00, May-2008; PackageVersion: Feb-2006; PackageReference: PWSN0008DA-A; Publisher: Altium Limited; PackageDescription: 8-Pin Plastic Very-very Thin Small Outline No Lead Package, 5.1 x 6.1 x 0.8mm Body, 1.27mm Pitch (WPAK); ComponentLink1Description: Manufacturer Link; ComponentLink1URL: http://sg.renesas.com/fmwk.jsp?cnt=discrete_category_landing.jsp&fp=/products/discrete/; ComponentLink2Description: Datasheet; ComponentLink2URL: http://documentation.renesas.com/eng/products/transistor/rej03g1643_rjk0348dpads.pdf; ComponentLink3Description: Packaging Specification; ComponentLink3URL: http://sg.renesas.com/media/products/common_info/package/pdf/transistor/code/pwsn0008da_a.pdf
footprint PWSN0008DA-A (SON, 8-Leads, Body 5.1x6.1mm, Pitch 1.27mm, Heatsink)
pins: 1 S, 2 S, 3 S, 4 G, 5 D, 6 D, 7 D, 8 D

## RJK0348DSP
designator Q?
Silicon N-Channel Power MOSFET, Power Switching; Published: 30-Oct-2009; DatasheetVersion: Rev.2.01, Apr-2008; PackageVersion: Sep-2005; PackageReference: PRSP0008DD-D; Publisher: Altium Limited; PackageDescription: 8-Pin Plastic Small Outline Integrated Circuit 1.27 mm Pitch (SOP-8); Code_IPC: SOIC127P600-8; ComponentLink1Description: Manufacturer Link; ComponentLink1URL: http://sg.renesas.com/fmwk.jsp?cnt=discrete_category_landing.jsp&fp=/products/discrete/; ComponentLink2Description: Datasheet; ComponentLink2URL: http://documentation.renesas.com/eng/products/transistor/rej03g1644_rjk0348dspds.pdf; ComponentLink3Description: Packaging Specification; ComponentLink3URL: http://sg.renesas.com/media/products/common_info/package/pdf/transistor/code/prsp0008dd_d.pdf
footprint PRSP0008DD-D_N (SOIC, 8-Leads, Body 4.9x3.95mm, Pitch 1.27mm, IPC Medium Density)
footprint PRSP0008DD-D_L (SOIC, 8-Leads, Body 4.9x3.95mm, Pitch 1.27mm, IPC High Density)
footprint PRSP0008DD-D_M (SOIC, 8-Leads, Body 4.9x3.95mm, Pitch 1.27mm, IPC Low Density)
pins: 1 S, 2 S, 3 S, 4 G, 5 D, 6 D, 7 D, 8 D

## RJK0349DPA
designator Q?
Silicon N-Channel Power MOSFET, Power Switching; Published: 30-Oct-2009; DatasheetVersion: Rev.2.00, Apr-2008; PackageVersion: Feb-2006; PackageReference: PWSN0008DA-A; Publisher: Altium Limited; PackageDescription: 8-Pin Plastic Very-very Thin Small Outline No Lead Package, 5.1 x 6.1 x 0.8mm Body, 1.27mm Pitch (WPAK); ComponentLink1Description: Manufacturer Link; ComponentLink1URL: http://sg.renesas.com/fmwk.jsp?cnt=discrete_category_landing.jsp&fp=/products/discrete/; ComponentLink2Description: Datasheet; ComponentLink2URL: http://documentation.renesas.com/eng/products/transistor/rej03g1645_rjk0349dpads.pdf; ComponentLink3Description: Packaging Specification; ComponentLink3URL: http://sg.renesas.com/media/products/common_info/package/pdf/transistor/code/pwsn0008da_a.pdf
footprint PWSN0008DA-A (SON, 8-Leads, Body 5.1x6.1mm, Pitch 1.27mm, Heatsink)
pins: 1 S, 2 S, 3 S, 4 G, 5 D, 6 D, 7 D, 8 D

## RJK0349DSP
designator Q?
Silicon N-Channel Power MOSFET, Power Switching; Published: 30-Oct-2009; DatasheetVersion: Rev.3.00, Jul-2008; PackageVersion: Sep-2005; PackageReference: PRSP0008DD-D; Publisher: Altium Limited; PackageDescription: 8-Pin Plastic Small Outline Integrated Circuit 1.27 mm Pitch (SOP-8); Code_IPC: SOIC127P600-8; ComponentLink1Description: Manufacturer Link; ComponentLink1URL: http://sg.renesas.com/fmwk.jsp?cnt=discrete_category_landing.jsp&fp=/products/discrete/; ComponentLink2Description: Datasheet; ComponentLink2URL: http://documentation.renesas.com/eng/products/transistor/rej03g1659_rjk0349dspds.pdf; ComponentLink3Description: Packaging Specification; ComponentLink3URL: http://sg.renesas.com/media/products/common_info/package/pdf/transistor/code/prsp0008dd_d.pdf
footprint PRSP0008DD-D_N (SOIC, 8-Leads, Body 4.9x3.95mm, Pitch 1.27mm, IPC Medium Density)
footprint PRSP0008DD-D_L (SOIC, 8-Leads, Body 4.9x3.95mm, Pitch 1.27mm, IPC High Density)
footprint PRSP0008DD-D_M (SOIC, 8-Leads, Body 4.9x3.95mm, Pitch 1.27mm, IPC Low Density)
pins: 1 S, 2 S, 3 S, 4 G, 5 D, 6 D, 7 D, 8 D

## RJK0351DPA
designator Q?
Silicon N-Channel Power MOSFET, Power Switching; Published: 30-Oct-2009; DatasheetVersion: Rev.2.00, Apr-2008; PackageVersion: Feb-2006; PackageReference: PWSN0008DA-A; Publisher: Altium Limited; PackageDescription: 8-Pin Plastic Very-very Thin Small Outline No Lead Package, 5.1 x 6.1 x 0.8mm Body, 1.27mm Pitch (WPAK); ComponentLink1Description: Manufacturer Link; ComponentLink1URL: http://sg.renesas.com/fmwk.jsp?cnt=discrete_category_landing.jsp&fp=/products/discrete/; ComponentLink2Description: Datasheet; ComponentLink2URL: http://documentation.renesas.com/eng/products/transistor/rej03g1646_rjk0351dpads.pdf; ComponentLink3Description: Packaging Specification; ComponentLink3URL: http://sg.renesas.com/media/products/common_info/package/pdf/transistor/code/pwsn0008da_a.pdf
footprint PWSN0008DA-A (SON, 8-Leads, Body 5.1x6.1mm, Pitch 1.27mm, Heatsink)
pins: 1 S, 2 S, 3 S, 4 G, 5 D, 6 D, 7 D, 8 D

## RJK0351DSP
designator Q?
Silicon N-Channel Power MOSFET, Power Switching; Published: 30-Oct-2009; DatasheetVersion: Rev.2.00, Jul-2008; PackageVersion: Sep-2005; PackageReference: PRSP0008DD-D; Publisher: Altium Limited; PackageDescription: 8-Pin Plastic Small Outline Integrated Circuit 1.27 mm Pitch (SOP-8); Code_IPC: SOIC127P600-8; ComponentLink1Description: Manufacturer Link; ComponentLink1URL: http://sg.renesas.com/fmwk.jsp?cnt=discrete_category_landing.jsp&fp=/products/discrete/; ComponentLink2Description: Datasheet; ComponentLink2URL: http://documentation.renesas.com/eng/products/transistor/rej03g1721_rjk0351dspds.pdf; ComponentLink3Description: Packaging Specification; ComponentLink3URL: http://sg.renesas.com/media/products/common_info/package/pdf/transistor/code/prsp0008dd_d.pdf
footprint PRSP0008DD-D_N (SOIC, 8-Leads, Body 4.9x3.95mm, Pitch 1.27mm, IPC Medium Density)
footprint PRSP0008DD-D_L (SOIC, 8-Leads, Body 4.9x3.95mm, Pitch 1.27mm, IPC High Density)
footprint PRSP0008DD-D_M (SOIC, 8-Leads, Body 4.9x3.95mm, Pitch 1.27mm, IPC Low Density)
pins: 1 S, 2 S, 3 S, 4 G, 5 D, 6 D, 7 D, 8 D

## RJK0352DSP
designator Q?
Silicon N-Channel Power MOSFET, Power Switching; Published: 30-Oct-2009; DatasheetVersion: Rev.5.01, Apr-2008; PackageVersion: Sep-2005; PackageReference: PRSP0008DD-D; Publisher: Altium Limited; PackageDescription: 8-Pin Plastic Small Outline Integrated Circuit 1.27 mm Pitch (SOP-8); Code_IPC: SOIC127P600-8; ComponentLink1Description: Manufacturer Link; ComponentLink1URL: http://sg.renesas.com/fmwk.jsp?cnt=discrete_category_landing.jsp&fp=/products/discrete/; ComponentLink2Description: Datasheet; ComponentLink2URL: http://documentation.renesas.com/eng/products/transistor/rej03g1660_rjk0352dspds.pdf; ComponentLink3Description: Packaging Specification; ComponentLink3URL: http://sg.renesas.com/media/products/common_info/package/pdf/transistor/code/prsp0008dd_d.pdf
footprint PRSP0008DD-D_N (SOIC, 8-Leads, Body 4.9x3.95mm, Pitch 1.27mm, IPC Medium Density)
footprint PRSP0008DD-D_L (SOIC, 8-Leads, Body 4.9x3.95mm, Pitch 1.27mm, IPC High Density)
footprint PRSP0008DD-D_M (SOIC, 8-Leads, Body 4.9x3.95mm, Pitch 1.27mm, IPC Low Density)
pins: 1 S, 2 S, 3 S, 4 G, 5 D, 6 D, 7 D, 8 D